# Altium integrated library Altium Database Library V2.IntLib: 376 symbols (part 8 of 17)

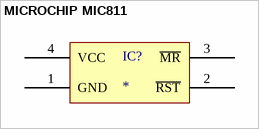
[diagram p161: symbol MICROCHIP MIC811]

## MICROCHIP MIC811
designator IC?
pins: 1 GND, 2 ~{RST}, 3 ~{MR}, 4 VCC


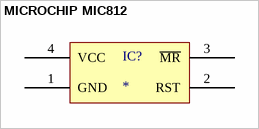
[diagram p162: symbol MICROCHIP MIC812]

## MICROCHIP MIC812
designator IC?
pins: 1 GND, 2 RST, 3 ~{MR}, 4 VCC


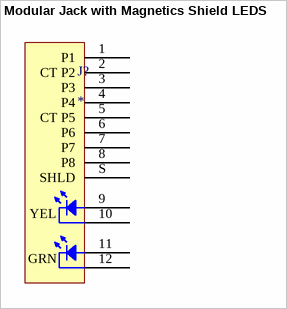
[diagram p163: symbol Modular Jack with Magnetics Shield LEDS]

## Modular Jack with Magnetics Shield LEDS
designator J?
pins: 1 P1, 2 CT P2, 3 P3, 4 P4, 5 CT P5, 6 P6, 7 P7, 8 P8, 9 P9, 10 P10, 11 P11, 12 P12, S SHLD
text: YEL; GRN


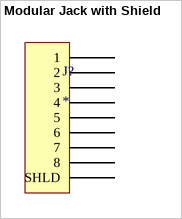
[diagram p164: symbol Modular Jack with Shield]

## Modular Jack with Shield
designator J?
pins: 1, 2, 3, 4, 5, 6, 7, 8, S SHLD


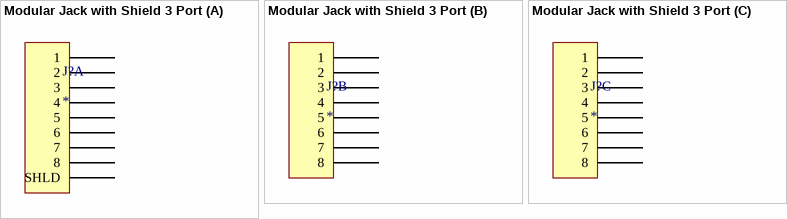
[diagram p165: symbol Modular Jack with Shield 3 Port]

## Modular Jack with Shield 3 Port
designator J?
part A pins: A1 1, A2 2, A3 3, A4 4, A5 5, A6 6, A7 7, A8 8, S SHLD
part B pins: B1 1, B2 2, B3 3, B4 4, B5 5, B6 6, B7 7, B8 8
part C pins: C1 1, C2 2, C3 3, C4 4, C5 5, C6 6, C7 7, C8 8


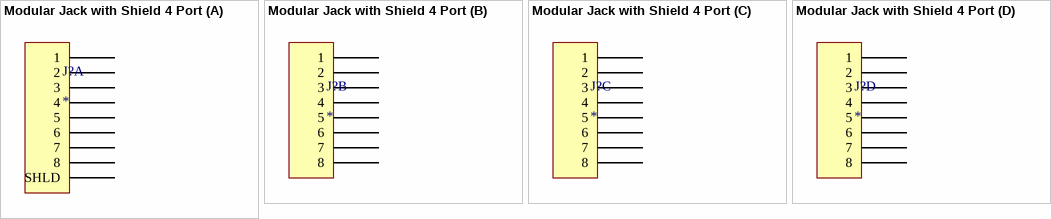
[diagram p166: symbol Modular Jack with Shield 4 Port]

## Modular Jack with Shield 4 Port
designator J?
part A pins: A1 1, A2 2, A3 3, A4 4, A5 5, A6 6, A7 7, A8 8, S SHLD
part B pins: B1 1, B2 2, B3 3, B4 4, B5 5, B6 6, B7 7, B8 8
part C pins: C1 1, C2 2, C3 3, C4 4, C5 5, C6 6, C7 7, C8 8
part D pins: D1 1, D2 2, D3 3, D4 4, D5 5, D6 6, D7 7, D8 8


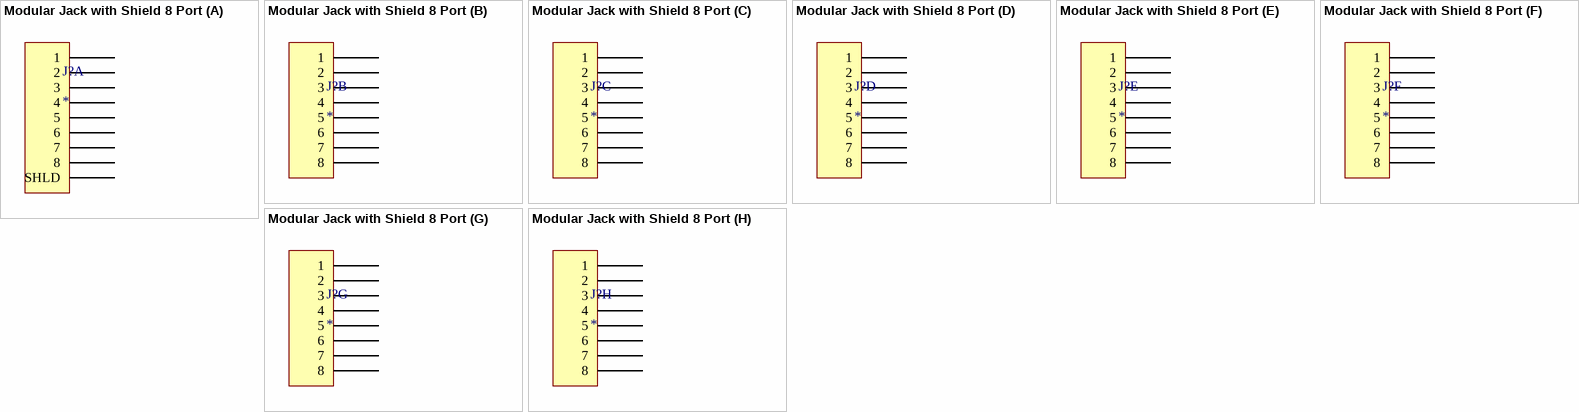
[diagram p167: symbol Modular Jack with Shield 8 Port]

## Modular Jack with Shield 8 Port
designator J?
part A pins: A1 1, A2 2, A3 3, A4 4, A5 5, A6 6, A7 7, A8 8, S SHLD
part B pins: B1 1, B2 2, B3 3, B4 4, B5 5, B6 6, B7 7, B8 8
part C pins: C1 1, C2 2, C3 3, C4 4, C5 5, C6 6, C7 7, C8 8
part D pins: D1 1, D2 2, D3 3, D4 4, D5 5, D6 6, D7 7, D8 8
part E pins: E1 1, E2 2, E3 3, E4 4, E5 5, E6 6, E7 7, E8 8
part F pins: F1 1, F2 2, F3 3, F4 4, F5 5, F6 6, F7 7, F8 8
part G pins: G1 1, G2 2, G3 3, G4 4, G5 5, G6 6, G7 7, G8 8
part H pins: H1 1, H2 2, H3 3, H4 4, H5 5, H6 6, H7 7, H8 8


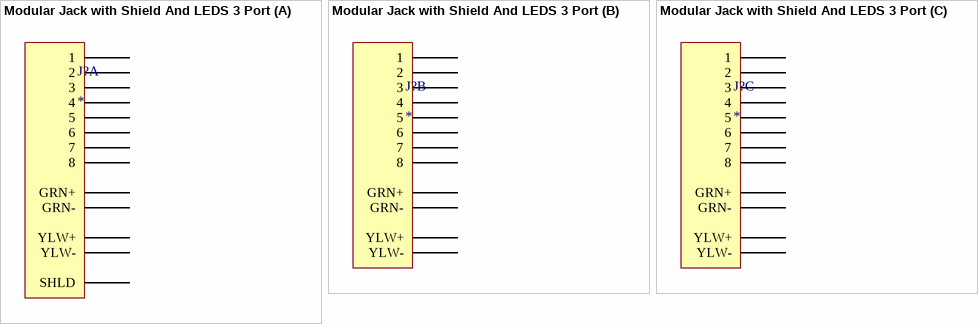
[diagram p168: symbol Modular Jack with Shield And LEDS 3 Port]

## Modular Jack with Shield And LEDS 3 Port
designator J?
part A pins: A1 1, A2 2, A3 3, A4 4, A5 5, A6 6, A7 7, A8 8, A9 GRN-, A10 GRN+, A11 YLW-, A12 YLW+, S SHLD
part B pins: B1 1, B2 2, B3 3, B4 4, B5 5, B6 6, B7 7, B8 8, B9 GRN-, B10 GRN+, B11 YLW-, B12 YLW+
part C pins: C1 1, C2 2, C3 3, C4 4, C5 5, C6 6, C7 7, C8 8, C9 GRN-, C10 GRN+, C11 YLW-, C12 YLW+


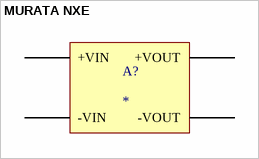
[diagram p169: symbol MURATA NXE]

## MURATA NXE
designator A?
pins: 1 -VIN, 3 +VIN, 7 -VOUT, 8 +VOUT


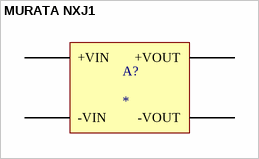
[diagram p170: symbol MURATA NXJ1]

## MURATA NXJ1
designator A?
pins: 1 -VIN, 3 +VIN, 7 -VOUT, 8 +VOUT


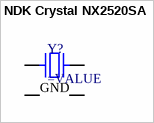
[diagram p171: symbol NDK Crystal NX2520SA]

## NDK Crystal NX2520SA
designator Y?
SMT Crystal
pins: 1, 2 GND, 3, 4 GND


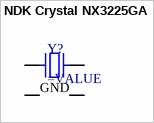
[diagram p172: symbol NDK Crystal NX3225GA]

## NDK Crystal NX3225GA
designator Y?
SMT Crystal
pins: 1, 2 GND, 3, 4 GND


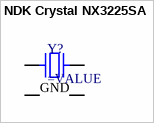
[diagram p173: symbol NDK Crystal NX3225SA]

## NDK Crystal NX3225SA
designator Y?
SMT Crystal
pins: 1, 2 GND, 3, 4 GND


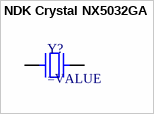
[diagram p174: symbol NDK Crystal NX5032GA]

## NDK Crystal NX5032GA
designator Y?
SMT Crystal
pins: 1, 2


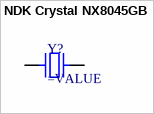
[diagram p175: symbol NDK Crystal NX8045GB]

## NDK Crystal NX8045GB
designator Y?
SMT Crystal
pins: 1, 2


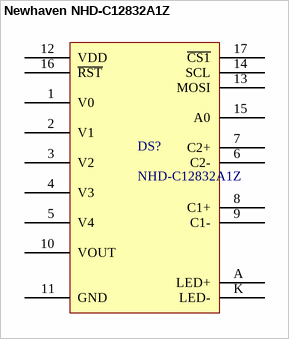
[diagram p176: symbol Newhaven NHD-C12832A1Z]

## Newhaven NHD-C12832A1Z
designator DS?, comment NHD-C12832A1Z
COG (Chip-On-Glass) Liquid Crystal Display Module
pins: 1 V0, 2 V1, 3 V2, 4 V3, 5 V4, 6 C2-, 7 C2+, 8 C1+, 9 C1-, 10 VOUT, 11 GND, 12 VDD, 13 MOSI, 14 SCL, 15 A0, 16 ~{RST}, 17 ~{CS1}, A LED+, K LED-


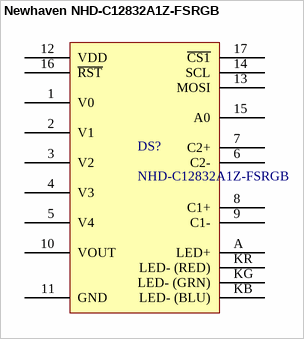
[diagram p177: symbol Newhaven NHD-C12832A1Z-FSRGB]

## Newhaven NHD-C12832A1Z-FSRGB
designator DS?, comment NHD-C12832A1Z-FSRGB
COG (Chip-On-Glass) Liquid Crystal Display Module
pins: 1 V0, 2 V1, 3 V2, 4 V3, 5 V4, 6 C2-, 7 C2+, 8 C1+, 9 C1-, 10 VOUT, 11 GND, 12 VDD, 13 MOSI, 14 SCL, 15 A0, 16 ~{RST}, 17 ~{CS1}, A LED+, KB LED- (BLU), KG LED- (GRN), KR LED- (RED)


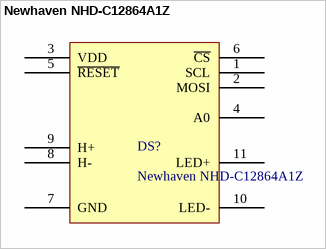
[diagram p178: symbol Newhaven NHD-C12864A1Z]

## Newhaven NHD-C12864A1Z
designator DS?
COG (Chip-On-Glass) Liquid Crystal Display Module
pins: 1 SCL, 2 MOSI, 3 VDD, 4 A0, 5 ~{RESET}, 6 ~{CS}, 7 GND, 8 H-, 9 H+, 10 LED-, 11 LED+


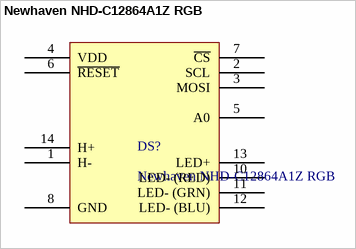
[diagram p179: symbol Newhaven NHD-C12864A1Z RGB]

## Newhaven NHD-C12864A1Z RGB
designator DS?
COG (Chip-On-Glass) Liquid Crystal Display Module
pins: 1 H-, 2 SCL, 3 MOSI, 4 VDD, 5 A0, 6 ~{RESET}, 7 ~{CS}, 8 GND, 10 LED- (RED), 11 LED- (GRN), 12 LED- (BLU), 13 LED+, 14 H+


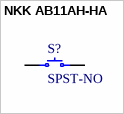
[diagram p180: symbol NKK AB11AH-HA]

## NKK AB11AH-HA
designator S?, comment SPST-NO
pins: 1, 3


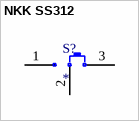
[diagram p181: symbol NKK SS312]

## NKK SS312
designator S?
pins: 1, 2 COM, 3


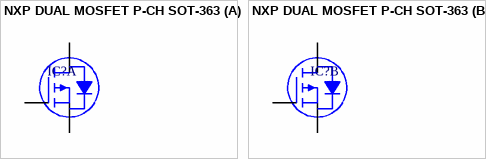
[diagram p182: symbol NXP DUAL MOSFET P-CH SOT-363]

## NXP DUAL MOSFET P-CH SOT-363
designator IC?
part A pins: 1 S1, 2 G1, 6 D1
part B pins: 3 D2, 4 S2, 5 G2


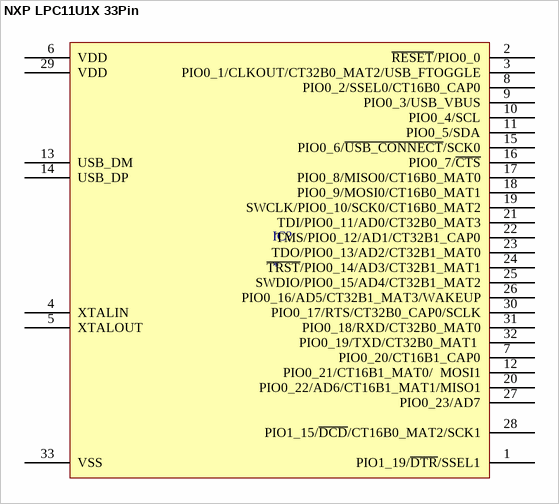
[diagram p183: symbol NXP LPC11U1X 33Pin]

## NXP LPC11U1X 33Pin
designator IC?
pins: 1 PIO1_19/~{DTR}/SSEL1, 2 ~{RESET}/PIO0_0, 3 PIO0_1/CLKOUT/CT32B0_MAT2/USB_FTOGGLE, 4 XTALIN, 5 XTALOUT, 6 VDD, 7 PIO0_20/CT16B1_CAP0, 8 PIO0_2/SSEL0/CT16B0_CAP0, 9 PIO0_3/USB_VBUS, 10 PIO0_4/SCL, 11 PIO0_5/SDA, 12 PIO0_21/CT16B1_MAT0/  MOSI1, 13 USB_DM, 14 USB_DP, 15 PIO0_6/~{USB_CONNECT}/SCK0, 16 PIO0_7/~{CTS}, 17 PIO0_8/MISO0/CT16B0_MAT0, 18 PIO0_9/MOSI0/CT16B0_MAT1, 19 SWCLK/PIO0_10/SCK0/CT16B0_MAT2, 20 PIO0_22/AD6/CT16B1_MAT1/MISO1, 21 TDI/PIO0_11/AD0/CT32B0_MAT3, 22 TMS/PIO0_12/AD1/CT32B1_CAP0, 23 TDO/PIO0_13/AD2/CT32B1_MAT0, 24 ~{TRST}/PIO0_14/AD3/CT32B1_MAT1, 25 SWDIO/PIO0_15/AD4/CT32B1_MAT2, 26 PIO0_16/AD5/CT32B1_MAT3/WAKEUP, 27 PIO0_23/AD7, 28 PIO1_15/~{DCD}/CT16B0_MAT2/SCK1, 29 VDD, 30 PIO0_17/RTS/CT32B0_CAP0/SCLK, 31 PIO0_18/RXD/CT32B0_MAT0, 32 PIO0_19/TXD/CT32B0_MAT1 , 33 VSS
